# Altium footprint library SMD,6.3x7.7mm.PcbLib: 1 footprints
Each footprint in its own frame and in the unit in brackets; x right, y up, seen from the top. Pads: shape width x height; smd on the part's side, far side on the other; paste and mask are expansions set on the pad; w line width, h text height; cw(c..) or ccw(c..) is an arc to the next point about the centre after c.
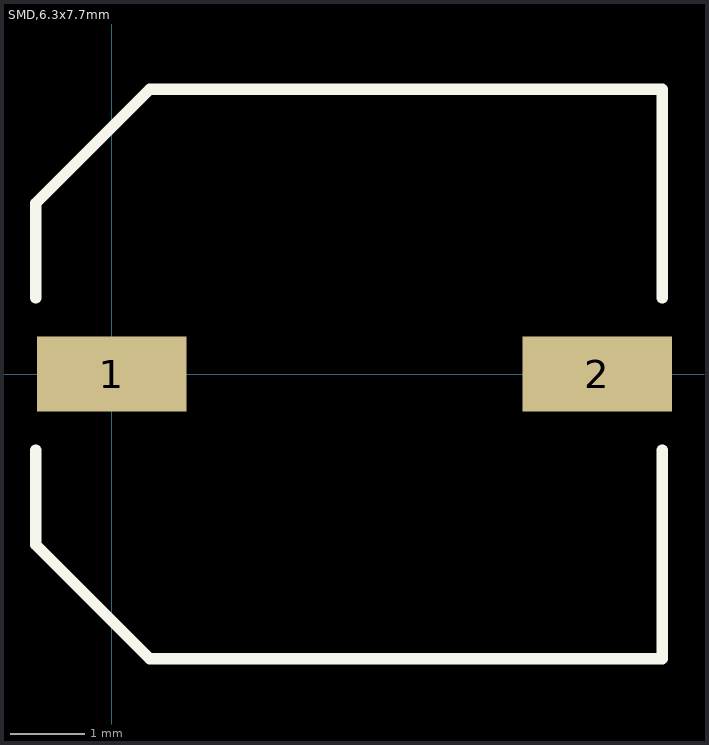
[diagram p0: the footprint, top view; thin cyan lines are the x and y axes]

## SMD,6.3x7.7mm [mm]
height 7.7
pads (2):
  rect 2x1 smd: 1(0,0) 2(6.5,0)
Top Overlay:
  lines w0.15: -1.016,-1.016 -1.016,-2.286 0.508,-3.81 7.366,-3.81 7.366,-1.016 ; -1.016,1.016 -1.016,2.286 0.508,3.81 7.366,3.81 7.366,1.016
3D body "SMD Aluminum Electrolytic Capacitor 6.3x7.7mm.x_t": height 7.7, standoff 0, extent -0.55,-3.3 7.05,3.3